# EAGLE library part TRHEI382-2 (library #PaJa_30_scr)
Transformator - do DPS - 4,5 VA - 2x sek.
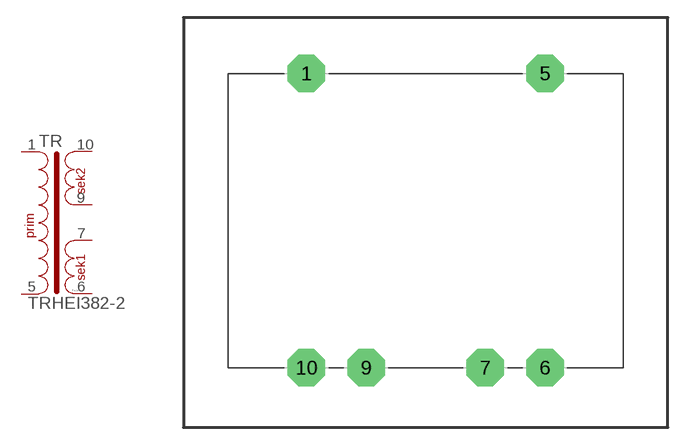
[diagram p43: symbol with the pads of TRHEI382; footprint TRHEI382]

Designator prefix TR

## TRHEI382-2  [TRHEI382]
1  P1  pas
5  P2  pas
6  S1-1  pas
7  S1-2  pas
9  S2-1  pas
10  S2-2  pas

## Footprint TRHEI382 (pad centres in mm)
drill 1.016 pad 3.2 octagon: 1 -10.16,12.7; 5 10.16,12.7; 6 10.16,-12.383; 7 5.08,-12.383; 9 -5.08,-12.383; 10 -10.16,-12.383